# EAGLE library part MCP73871 (library 0_jc-custom-eagle6)
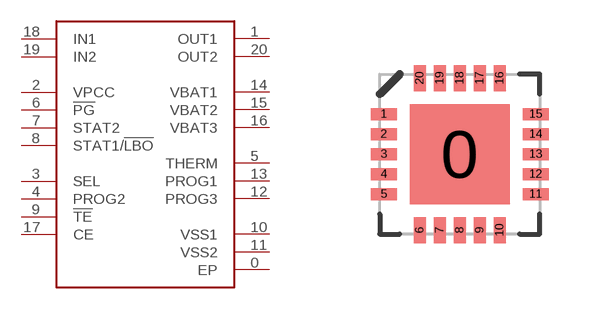
[diagram p13: symbol with the pads of QFN20; footprint QFN20]

Designator prefix -

## MCP73871QFNE  [QFN20]
0  EP
1  OUT1
2  VPCC
3  SEL
4  PROG2
5  THERM
6  !PG
7  STAT2
8  STAT1/!LBO
9  !TE
10  VSS1
11  VSS2
12  PROG3
13  PROG1
14  VBAT1
15  VBAT2
16  VBAT3
17  CE
18  IN1
19  IN2
20  OUT2

## Footprint QFN20 (pad centres in mm)
smd 2.5 x 2.5: 0 0,0
smd 0.65 x 0.3: 1 -1.9,1; 2 -1.9,0.5; 3 -1.9,0; 4 -1.9,-0.5; 5 -1.9,-1; 11 1.9,-1; 12 1.9,-0.5; 13 1.9,0; 14 1.9,0.5; 15 1.9,1
smd 0.3 x 0.65: 6 -1,-1.9; 7 -0.5,-1.9; 8 0,-1.9; 9 0.5,-1.9; 10 1,-1.9; 16 1,1.9; 17 0.5,1.9; 18 0,1.9; 19 -0.5,1.9; 20 -1,1.9